# Altium schematic symbol library other.SchLib: 3 symbols
Pins are listed as number, name and electrical type; pins without a type are passive.

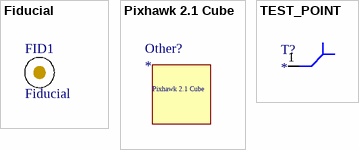
[diagram p0: symbols Fiducial to TEST_POINT]

## Fiducial
designator FID1
Fiducial mark.  There is nothing to buy or mount.; Supplier 1: Digi-Key
footprint Fiducial

## Pixhawk 2.1 Cube
designator Other?
footprint Pixhawk 2.1 Cube

## TEST_POINT
designator T?
footprint TEST_POINT
pins: 1